# EAGLE library part VO14642 (library vishay)
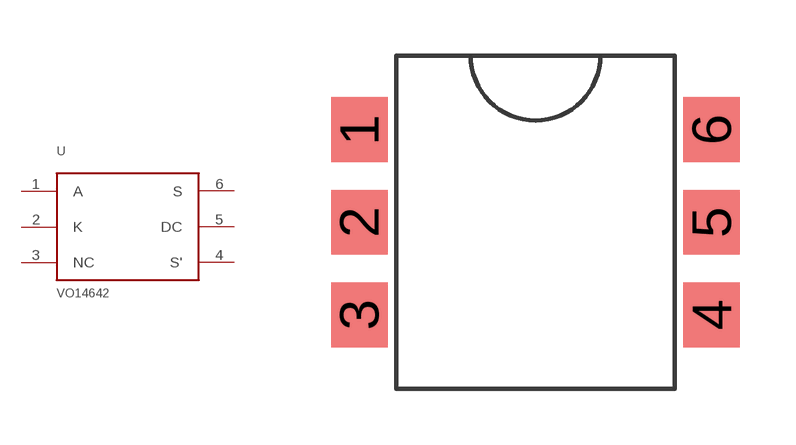
[diagram p0: symbol with the pads of SMD-6; footprint SMD-6]

Designator prefix -

## VO14642AABTR  [SMD-6]
1  A
2  K
3  NC
4  S'
5  DC
6  S

## Footprint SMD-6 (pad centres in mm)
smd 1.52 x 1.75: 1 -4.75,2.5; 2 -4.75,0; 3 -4.75,-2.5; 4 4.75,-2.5; 5 4.75,0; 6 4.75,2.5